# EAGLE library part TC4427 (library Microchip-TC44xx)
IC, MOSFET DRIVER, LOW SIDE
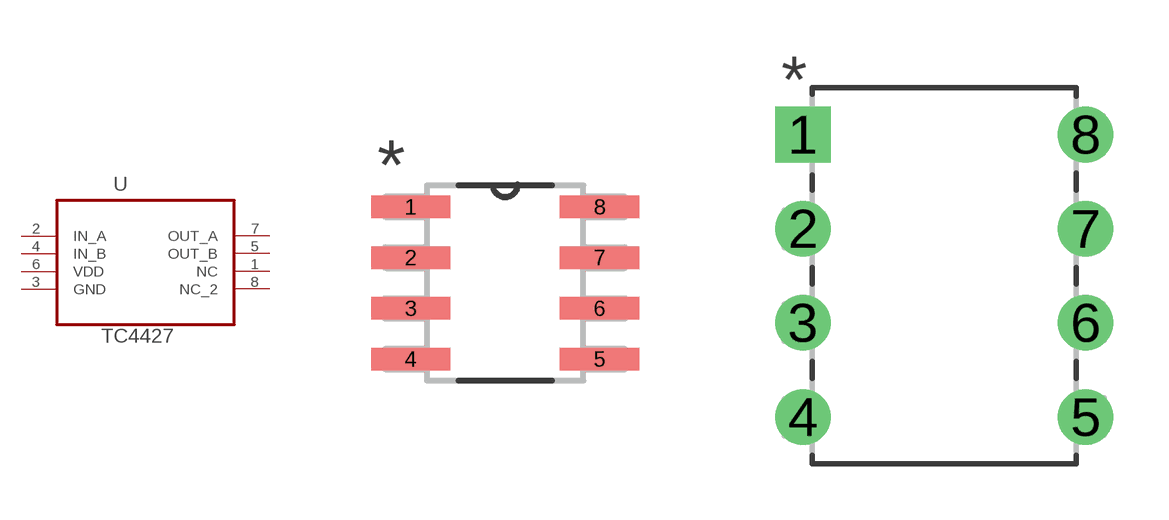
[diagram p4: symbol with the pads of SOIC127P600X175-8N; footprints SOIC127P600X175-8N, DIP254P762X432-8]

Designator prefix U

## TC4427COA713 (MPN: TC4427COA713; OC_FARNELL: 1895706; OC_NEWARK: 92C6110; PACKAGE: SOIC-8; SUPPLIER: MICROCHIP)  [SOIC127P600X175-8N]
1  NC  nc
2  IN_A  in
3  GND  pas
4  IN_B  in
5  OUT_B  out
6  VDD  pwr
7  OUT_A  out
8  NC_2  nc

## TC4427CPA (MPN: TC4427CPA; OC_FARNELL: 9762639; OC_NEWARK: 33C1150; PACKAGE: DIP-8; SUPPLIER: MICROCHIP), TC4427EPA (MPN: TC4427EPA; OC_FARNELL: 1651944; OC_NEWARK: 96K4021; PACKAGE: DIP-8; SUPPLIER: MICROCHIP)  [DIP254P762X432-8]
Pads as for SOIC127P600X175-8N

## Footprint SOIC127P600X175-8N (pad centres in mm)
smd 1.981 x 0.559: 1 -2.362,1.905; 2 -2.362,0.635; 3 -2.362,-0.635; 4 -2.362,-1.905; 5 2.362,-1.905; 6 2.362,-0.635; 7 2.362,0.635; 8 2.362,1.905

## Footprint DIP254P762X432-8 (pad centres in mm)
drill 0.991 square: 1 -7.62,7.62
drill 0.991: 2 -7.62,5.08; 3 -7.62,2.54; 4 -7.62,0; 5 0,0; 6 0,2.54; 7 0,5.08; 8 0,7.62